# Altium schematic symbol library SCLIB.SchLib: 30 symbols
Pins are listed as number, name and electrical type; pins without a type are passive.

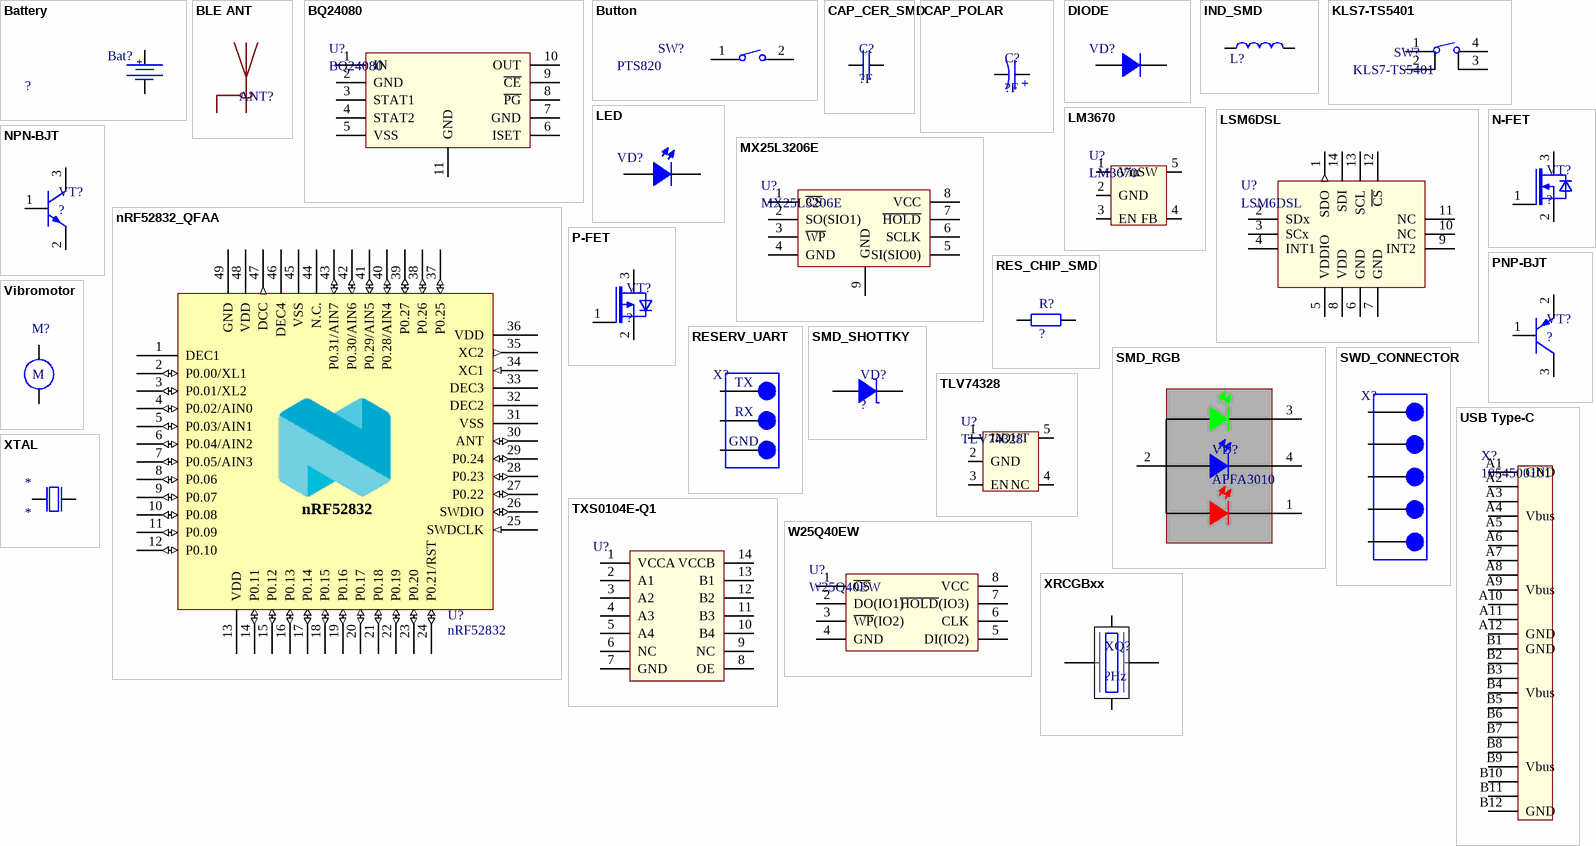
[diagram p0: symbols Battery to XTAL]

## Battery
designator Bat?, comment ?
Battery connector; Description Doc: type? ?V ?mAh; Type Rus: Элемент питания; Footprint Doc: Batteryconnector; Manufacturer: ?; Part Number: ?; Type Eng: Battery; Value: ?
footprint Batteryconnector
pins: 1, 2
text: +

## BLE ANT
designator ANT?, comment 2.4-GHz Inverted F Antenna  (value not drawn)  (net tie, no BOM)
2.4Ghz PCB; Type Rus: Антенна; Description Doc: 2.4Ghz PCB; Type Eng: Antenna; Value: 2.4-GHz Inverted F Antenna
footprint 2.4-GHz Inverted F Antenna - 2
footprint 2.4-GHz Inverted F Antenna - 2 - duplicate
pins: 1 GND, 2 FEED

## BQ24080
designator U?
Battery charger IC; Manufacturer: TEXAS INSTRUMETNS; Part Number: BQ24080DRC; Type Eng: Integrated Circuit; Type Rus: Микросхема; Footprint Doc: VSON10; Value: BQ24080
footprint VSON10
pins: 1 IN (power), 2 GND, 3 STAT1 (power), 4 STAT2, 5 VSS, 6 ISET, 7 GND, 8 ~{PG}, 9 ~{CE}, 10 OUT (power), 11 GND (power)

## Button
designator SW?, comment PTS820
Button TACT; Part Number: PTS820-J20M-SMTR-LFS; Manufacturer: C&K Components; Type Rus: Кнопка; Description Doc: TACT 12V 50mA NO; Type Eng: Button; Footprint Doc: SMD; Value: PTS820
footprint PTS820 (Button)
pins: 1, 2

## CAP_CER_SMD
designator C?, comment ?F
Chip Capacitor; Description Doc: CERAMIC ?V ???; Type Eng: Capactior; Type Rus: Конденсатор; Footprint Doc: ?; Part Number: ?; Value: ?F
footprint SMD0402CAP (Chip Capacitor, 2-Leads, Body 1,00x0,50mm, IPC Medium Density)
footprint SMD0603CAP
footprint SMD0805CAP (0805 CAP)
pins: 1, 2

## CAP_POLAR
designator C?, comment ?F
Polar Radial Capacitor; Description Doc: ALUMINIUM ?V; Type Eng: Capactior; Type Rus: Конденсатор; Footprint Doc: RADIAL RxH; Part Number: ?; Value: ?F
pins: 1, 2
text: +

## DIODE
designator VD?
pins: 1, 2

## IND_SMD
designator L?, comment ?H  (value not drawn)
Chip Coil; Type Rus: Индуктивность; Description Doc: ?A ?MHz; Value: ?H; Type Eng: Coil
pins: 1, 2

## KLS7-TS5401
designator SW?
Button TACT SIDE; Part Number: KLS7-TS5401-1.35-250-T; Manufacturer: KLS; Type Rus: Кнопка; Description Doc: TACT 12V 50mA NO; Type Eng: Button; Footprint Doc: SMD; Value: KLS7-TS5401
footprint KLS7-TS5401 (TACT BUTTON)
pins: 1, 2, 3, 4

## LED
designator VD?
LED
pins: 1, 2 1

## LM3670
designator U?
Buck converter; Manufacturer: TEXAS INSTRUMENTS; Part Number: LM3670MF-ADJ/NOPB; Type Eng: Integrated circuit; Type Rus: Микросхема; Footprint Doc: SOT23-5; Value: LM3670
footprint SOT23-5
pins: 1 Vin, 2 GND, 3 EN, 4 FB, 5 SW

## LSM6DSL
designator U?
Accelerometer; Manufacturer: STMicroelectronics; Type Eng: Integrated circuit; Type Rus: Микросхема; Footprint Doc: LGA-14; Part Number: LSM6DSL; Value: LSM6DSL
footprint LGA-14L
pins: 1 SDO (out), 2 SDx, 3 SCx, 4 INT1, 5 VDDIO, 6 GND, 7 GND, 8 VDD, 9 INT2, 10 NC, 11 NC, 12 ~{CS}, 13 SCL, 14 SDI

## MX25L3206E
designator U?
Flash memory; Manufacturer: Macronix International; Part Number: MX25L3206EZUI-12G; Type Eng: Integrated circuit; Type Rus: Микросхема; Footprint Doc: USON-8; Value: MX25L3206E
footprint USON-8
pins: 1 ~{CS}, 2 SO(SIO1), 3 ~{WP}, 4 GND, 5 SI(SIO0), 6 SCLK, 7 ~{HOLD}, 8 VCC, 9 GND

## N-FET
designator VT?, comment ?
N-FET; Type Eng: Transistor; Type Rus: Транзистор; Description Doc: N-FET ?A ?V; Part Number: ?; Footprint Doc: SOT-23-3; Value: ?
pins: 1 G, 2 S, 3 D

## NPN-BJT
designator VT?, comment ?
NPN BJT; Description Doc: NPN ?A ?V; Type Eng: Transistor; Type Rus: Транзистор; Footprint Doc: SOT-23-3; Part Number: ?; Value: ?
pins: 1 G, 2 S, 3 D

## nRF52832_QFAA
designator U?, comment nRF52832
Manufacturer: Nordic; Part Number: nRF52832-QFAA; Type Eng: Integrated circuit; Type Rus: Микросхема; Footprint Doc: QFAA; Value: nRF52832
footprint QFN40P600X600X90-48N
pins: 1 DEC1 (power), 2 P0.00/XL1 (io), 3 P0.01/XL2 (io), 4 P0.02/AIN0 (io), 5 P0.03/AIN1 (io), 6 P0.04/AIN2 (io), 7 P0.05/AIN3 (io), 8 P0.06 (io), 9 P0.07 (io), 10 P0.08 (io), 11 P0.09 (io), 12 P0.10 (io), 13 VDD (power), 14 P0.11 (io), 15 P0.12 (io), 16 P0.13 (io), 17 P0.14 (io), 18 P0.15 (io), 19 P0.16 (io), 20 P0.17 (io), 21 P0.18 (io), 22 P0.19 (io), 23 P0.20 (io), 24 P0.21/RST (io), 25 SWDCLK (in), 26 SWDIO (io), 27 P0.22 (io), 28 P0.23 (io), 29 P0.24 (io), 30 ANT (io), 31 VSS (power), 32 DEC2 (power), 33 DEC3 (power), 34 XC1 (in), 35 XC2 (out), 36 VDD (power), 37 P0.25 (io), 38 P0.26 (io), 39 P0.27 (io), 40 P0.28/AIN4 (io), 41 P0.29/AIN5 (io), 42 P0.30/AIN6 (io), 43 P0.31/AIN7 (io), 44 N.C. (power), 45 VSS (power), 46 DEC4 (power), 47 DCC (out), 48 VDD, 49 GND

## P-FET
designator VT?, comment ?
P-FET; Type Eng: Transistor; Type Rus: Транзистор; Description Doc: P-FET ?A ?V; Part Number: ?; Footprint Doc: SOT-23-3; Value: ?
pins: 1 G, 2 S, 3 D

## PNP-BJT
designator VT?, comment ?
PNP BJT; Description Doc: PNP ?A ?V; Type Eng: Transistor; Type Rus: Транзистор; Footprint Doc: SOT-23-3; Part Number: ?; Value: ?
pins: 1 G, 2 S, 3 D

## RES_CHIP_SMD
designator R?, comment ?
Chip Resistor; Type Rus: Резистор; Description Doc: 0.1W 5%; Type Eng: Resistor; Footprint Doc: 0603; Part Number: ?; Value: ?
footprint SMD0402RES (Chip Resistor, 2-Leads, Body 1,00x0,50mm, IPC Medium Density)
footprint SMD0603RES (0603 Resistor)
pins: 1, 2

## RESERV_UART
designator X?
Test Point
footprint UART_POINTS
pins: 1, 2, 3
text: TX; RX; GND

## SMD_RGB
designator VD?, comment APFA3010
RGB SMD; Part Number: APFA3010SEEZGQBDC; Manufacturer: Kingbright; Description Doc: RGB_SMD; Type Eng: LED; Type Rus: Светодиод; Footprint Doc: 3010_SMD_RGB; Value: APFA3010
footprint SMD_LED3010
pins: 1, 2, 3, 4

## SMD_SHOTTKY
designator VD?, comment ?
Shottky Diode; Description Doc: SHOTTKY ?A ?V; Type Rus: Диод; Footprint Doc: ?; Part Number: ?; Type Eng: Diode; Value: ?
pins: 1, 2

## SWD_CONNECTOR
designator X?
Pad for SWD
footprint SWD_POINTS
pins: 1, 2, 3, 4, 5

## TLV74328
designator U?
Low-Dropout Regulator; Manufacturer: TEXAS INSTRUMETNS; Part Number: TLV74328PDBVR; Type Eng: Integrated Circuit; Type Rus: Микросхема; Footprint Doc: SOT23-5; Value: TLV74328
footprint SOT23-5
pins: 1 IN, 2 GND, 3 EN, 4 NC, 5 OUT

## TXS0104E-Q1
designator U?
pins: 1 VCCA, 2 A1, 3 A2, 4 A3, 5 A4, 6 NC, 7 GND, 8 OE, 9 NC, 10 B4, 11 B3, 12 B2, 13 B1, 14 VCCB

## USB Type-C
designator X?, comment 1054500101
USB Type-C; Manufacturer: Molex; Type Eng: Connector; Type Rus: Разъем; Footprint Doc: USB-TypeC; Part Number: 1054500101; Value: 1054500101
footprint 1054500101
pins: A1 GND, A2 2, A3 3, A4 Vbus, A5 5, A6 6, A7 7, A8 8, A9 Vbus, A10 10, A11 11, A12 GND, B1 GND, B2 14, B3 15, B4 Vbus, B5 17, B6 18, B7 19, B8 20, B9 Vbus, B10 22, B11 23, B12 GND

## Vibromotor
designator M?
Vibration motor; Manufacturer: QX-Motor; Part Number: QX-4A; Type Rus: Вибромотор; Type Eng: Vibration motor
footprint VIBRO
pins: 1, 2
text: M

## W25Q40EW
designator U?
Flash memory; Manufacturer: Winbond; Part Number: W25Q40EWSNIG; Type Eng: Integrated circuit; Type Rus: Микросхема; Footprint Doc: SOIC-8; Value: W25Q40EW
footprint USON 8L
pins: 1 ~{CS}, 2 DO(IO1), 3 ~{WP}(IO2), 4 GND, 5 DI(IO2), 6 CLK, 7 ~{HOLD}(IO3), 8 VCC

## XRCGBxx
designator XQ?, comment ?Hz
SMD Quartz rezonator; Type Eng: Quartz resonator; Type Rus: Кварцевый резонатор; Description Doc: ?pF ?ppm; Footprint Doc: SMD; Part Number: ?; Value: ?Hz; Manufacturer: ?
footprint XTAL_2016
pins: 1, 2, 3, 4

## XTAL
designator *
pins: 1, 2